# Altium schematic symbol library STM32F105VBT6.SchLib: 1 symbol
Pins are listed as number, name and electrical type; pins without a type are passive.

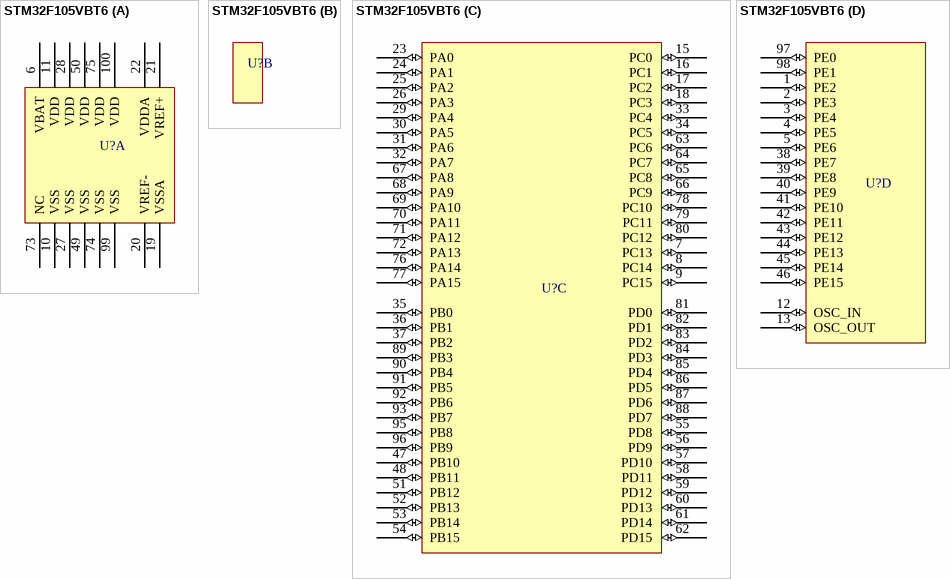
[diagram p0: symbol STM32F105VBT6]

## STM32F105VBT6
designator U?  (value not drawn)
Mainstream Connectivity line, Arm Cortex-M3 MCU with 128 Kbytes of Flash memory,72 MHz CPU, CAN, USB 2.0 OTG
part A pins: 6 VBAT (power), 10 VSS (power), 11 VDD (power), 19 VSSA (power), 20 VREF- (power), 21 VREF+ (power), 22 VDDA (power), 27 VSS (power), 28 VDD (power), 49 VSS (power), 50 VDD (power), 73 NC, 74 VSS (power), 75 VDD (power), 99 VSS (power), 100 VDD (power)
part C pins: 7 PC13 (io), 8 PC14 (io), 9 PC15 (io), 15 PC0 (io), 16 PC1 (io), 17 PC2 (io), 18 PC3 (io), 23 PA0 (io), 24 PA1 (io), 25 PA2 (io), 26 PA3 (io), 29 PA4 (io), 30 PA5 (io), 31 PA6 (io), 32 PA7 (io), 33 PC4 (io), 34 PC5 (io), 35 PB0 (io), 36 PB1 (io), 37 PB2 (io), 47 PB10 (io), 48 PB11 (io), 51 PB12 (io), 52 PB13 (io), 53 PB14 (io), 54 PB15 (io), 55 PD8 (io), 56 PD9 (io), 57 PD10 (io), 58 PD11 (io), 59 PD12 (io), 60 PD13 (io), 61 PD14 (io), 62 PD15 (io), 63 PC6 (io), 64 PC7 (io), 65 PC8 (io), 66 PC9 (io), 67 PA8 (io), 68 PA9 (io), 69 PA10 (io), 70 PA11 (io), 71 PA12 (io), 72 PA13 (io), 76 PA14 (io), 77 PA15 (io), 78 PC10 (io), 79 PC11 (io), 80 PC12 (io), 81 PD0 (io), 82 PD1 (io), 83 PD2 (io), 84 PD3 (io), 85 PD4 (io), 86 PD5 (io), 87 PD6 (io), 88 PD7 (io), 89 PB3 (io), 90 PB4 (io), 91 PB5 (io), 92 PB6 (io), 93 PB7 (io), 95 PB8 (io), 96 PB9 (io)
part D pins: 1 PE2 (io), 2 PE3 (io), 3 PE4 (io), 4 PE5 (io), 5 PE6 (io), 12 OSC_IN (io), 13 OSC_OUT (io), 38 PE7 (io), 39 PE8 (io), 40 PE9 (io), 41 PE10 (io), 42 PE11 (io), 43 PE12 (io), 44 PE13 (io), 45 PE14 (io), 46 PE15 (io), 97 PE0 (io), 98 PE1 (io)